# EAGLE library part TSW-D-74 (library con-samtec-tsw)
HEADER
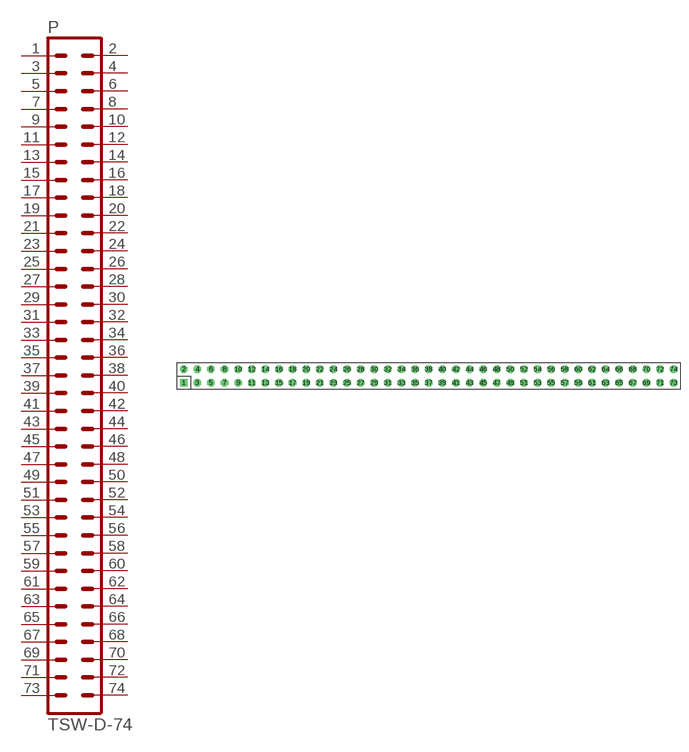
[diagram p124: symbol with the pads of TSW-D-74; footprint TSW-D-74]

Designator prefix P

## TSW-D-74  [TSW-D-74]
1  1  pas
2  2  pas
3  3  pas
4  4  pas
5  5  pas
6  6  pas
7  7  pas
8  8  pas
9  9  pas
10  10  pas
11  11  pas
12  12  pas
13  13  pas
14  14  pas
15  15  pas
16  16  pas
17  17  pas
18  18  pas
19  19  pas
20  20  pas
21  21  pas
22  22  pas
23  23  pas
24  24  pas
25  25  pas
26  26  pas
27  27  pas
28  28  pas
29  29  pas
30  30  pas
31  31  pas
32  32  pas
33  33  pas
34  34  pas
35  35  pas
36  36  pas
37  37  pas
38  38  pas
39  39  pas
40  40  pas
41  41  pas
42  42  pas
43  43  pas
44  44  pas
45  45  pas
46  46  pas
47  47  pas
48  48  pas
49  49  pas
50  50  pas
51  51  pas
52  52  pas
53  53  pas
54  54  pas
55  55  pas
56  56  pas
57  57  pas
58  58  pas
59  59  pas
60  60  pas
61  61  pas
62  62  pas
63  63  pas
64  64  pas
65  65  pas
66  66  pas
67  67  pas
68  68  pas
69  69  pas
70  70  pas
71  71  pas
72  72  pas
73  73  pas
74  74  pas

## Footprint TSW-D-74 (pad centres in mm)
HEADER
drill 0.914 square: 1 -45.72,-1.27
drill 0.914 octagon: 2 -45.72,1.27; 3 -43.18,-1.27; 4 -43.18,1.27; 5 -40.64,-1.27; 6 -40.64,1.27; 7 -38.1,-1.27; 8 -38.1,1.27; 9 -35.56,-1.27; 10 -35.56,1.27; 11 -33.02,-1.27; 12 -33.02,1.27; 13 -30.48,-1.27; 14 -30.48,1.27; 15 -27.94,-1.27; 16 -27.94,1.27; 17 -25.4,-1.27; 18 -25.4,1.27; 19 -22.86,-1.27; 20 -22.86,1.27; 21 -20.32,-1.27; 22 -20.32,1.27; 23 -17.78,-1.27; 24 -17.78,1.27; 25 -15.24,-1.27; 26 -15.24,1.27; 27 -12.7,-1.27; 28 -12.7,1.27; 29 -10.16,-1.27; 30 -10.16,1.27; 31 -7.62,-1.27; 32 -7.62,1.27; 33 -5.08,-1.27; 34 -5.08,1.27; 35 -2.54,-1.27; 36 -2.54,1.27; 37 0,-1.27; 38 0,1.27; 39 2.54,-1.27; 40 2.54,1.27; 41 5.08,-1.27; 42 5.08,1.27; 43 7.62,-1.27; 44 7.62,1.27; 45 10.16,-1.27; 46 10.16,1.27; 47 12.7,-1.27; 48 12.7,1.27; 49 15.24,-1.27; 50 15.24,1.27; 51 17.78,-1.27; 52 17.78,1.27; 53 20.32,-1.27; 54 20.32,1.27; 55 22.86,-1.27; 56 22.86,1.27; 57 25.4,-1.27; 58 25.4,1.27; 59 27.94,-1.27; 60 27.94,1.27; 61 30.48,-1.27; 62 30.48,1.27; 63 33.02,-1.27; 64 33.02,1.27; 65 35.56,-1.27; 66 35.56,1.27; 67 38.1,-1.27; 68 38.1,1.27; 69 40.64,-1.27; 70 40.64,1.27; 71 43.18,-1.27; 72 43.18,1.27; 73 45.72,-1.27; 74 45.72,1.27